# Altium schematic symbol library power.SCHLIB: 15 symbols
Pins are listed as number, name and electrical type; pins without a type are passive.

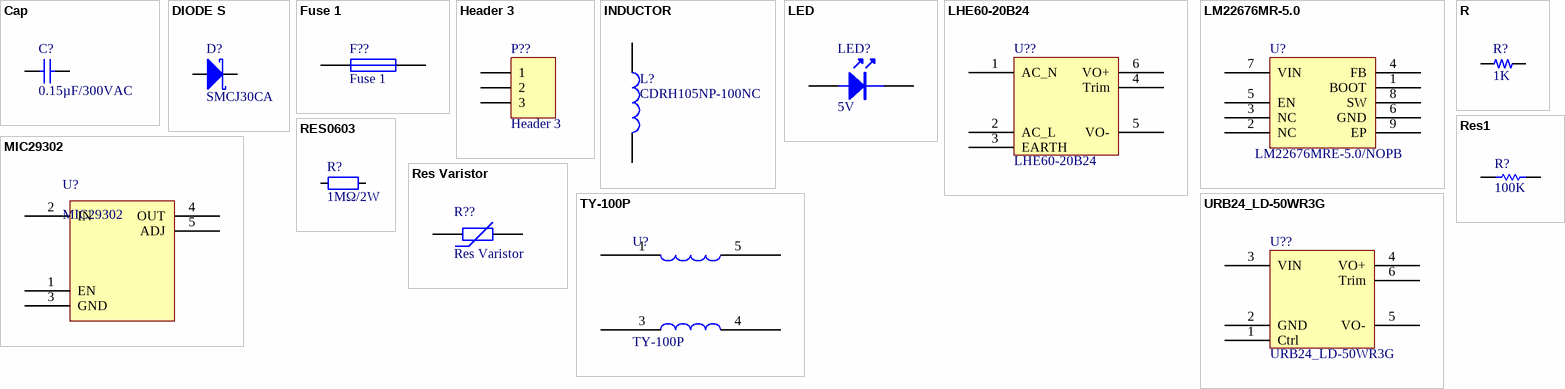
[diagram p0: symbols Cap to URB24_LD-50WR3G]

## Cap
designator C?, comment 0.15µF/300VAC
Capacitor; Value: 22nF; Published: 8-Jun-2000; LatestRevisionDate: 17-Jul-2002; LatestRevisionNote: Re-released for DXP Platform.; PackageReference: RAD-0.3; Publisher: Altium Limited; PackageDescription: Radial Cap, Thru-Hole; 2 Leads; 0.3 in Pin Spacing
simulation model CAP (Capacitor)
signal-integrity model Cap
pins: 1, 2

## DIODE S
designator D?, comment SMCJ30CA
Schottky Diode
footprint SMC-54*37
pins: A, K

## Fuse 1
designator F??
Fuse; Published: 8-Jun-2000; LatestRevisionDate: 17-Jul-2002; LatestRevisionNote: Re-released for DXP Platform.; PackageReference: PIN-W2/E2.8; Publisher: Altium Limited; PackageDescription: Thru-Hole; 2 Leads
simulation model FUSE (Spice Subcircuit)
pins: 1, 2

## Header 3
designator P??
Header, 3-Pin; LatestRevisionDate: 17-Jul-2002; LatestRevisionNote: Re-released for DXP Platform.; Publisher: Altium Limited
footprint HDR1X3 (Connector; Header; 3 Position)
signal-integrity model Connector
pins: 1, 2, 3

## INDUCTOR
designator L?, comment CDRH105NP-100NC
footprint CDRH105
pins: 1, 2

## LED
designator LED?, comment 5V
footprint 0603LED
pins: 1, 2

## LHE60-20B24
designator U??
pins: 1 AC_N, 2 AC_L, 3 EARTH, 4 Trim, 5 VO-, 6 VO+

## LM22676MR-5.0
designator U?, comment LM22676MRE-5.0/NOPB
footprint SOP127P600X168_HS-8N (SOP, 8-Leads, Body 5.0x4.0mm (max), Pitch 1.27mm, IPC Medium Density)
pins: 1 BOOT, 2 NC, 3 NC, 4 FB, 5 EN, 6 GND, 7 VIN, 8 SW, 9 EP

## MIC29302
designator U?
pins: 1 EN, 2 IN, 3 GND, 4 OUT, 5 ADJ

## R
designator R?, comment 1K
R
footprint 0603R
footprint 0603R
footprint 0603R
footprint R3
pins: 1, 2

## Res1
designator R?, comment 100K
Resistor; Published: 8-Jun-2000; LatestRevisionDate: 17-Jul-2002; LatestRevisionNote: Re-released for DXP Platform.; PackageReference: AXIAL-0.3; Publisher: Altium Limited
footprint 0603R
simulation model RESISTOR (Resistor)
signal-integrity model Res
pins: 1, 2

## RES0603
designator R?, comment 1MΩ/2W
物料主编码(PN): 150000040; Value: 100K; ID: 233; 序号: 109; 物料名称: 贴片电阻; 精度: ±1%; 规格型号(完整型号): RC1608F103CS/RC0603FR-0710KL; 物料描述: RES,贴片电阻,0603,10k,±1%,1/10W,1.6X0.8X0.45mm,RC1608F103CS/RC0603FR-0710KL; 工作温度: –55°C to 155°C; 制造商: 三星/YAGEO; 器件等级: ——; 物料类型: 表贴电阻; 参数值: 1.00E+04
pins: 1, 2

## Res Varistor
designator R??
Varistor (Voltage-Sensitive Resistor); Published: 24-Mar-1999; LatestRevisionDate: 29-May-2009; LatestRevisionNote: IPC-7351 Footprint Added.; PackageVersion: Mar-2003; PackageReference: 6-0805; Publisher: Altium Limited; PackageDescription: Chip Resistor 0805 Case Size; Code_IPC: RESC2012
footprint 6-0805_L (Chip Resistor, Body 2.0x1.2mm, IPC High Density)
footprint 6-0805_M (Chip Resistor, Body 2.0x1.2mm, IPC Low Density)
pins: 1, 2

## TY-100P
designator U?
PCB mounting filters
footprint TY-100P
pins: 1 L, 3 L, 4, 5 L

## URB24_LD-50WR3G
designator U??
pins: 1 Ctrl, 2 GND, 3 VIN, 4 VO+, 5 VO-, 6 Trim